# Altium footprint library GPS.PcbLib: 5 footprints
Each footprint in its own frame and in the unit in brackets; x right, y up, seen from the top. Pads: shape width x height; smd on the part's side, far side on the other; paste and mask are expansions set on the pad; w line width, h text height; cw(c..) or ccw(c..) is an arc to the next point about the centre after c.
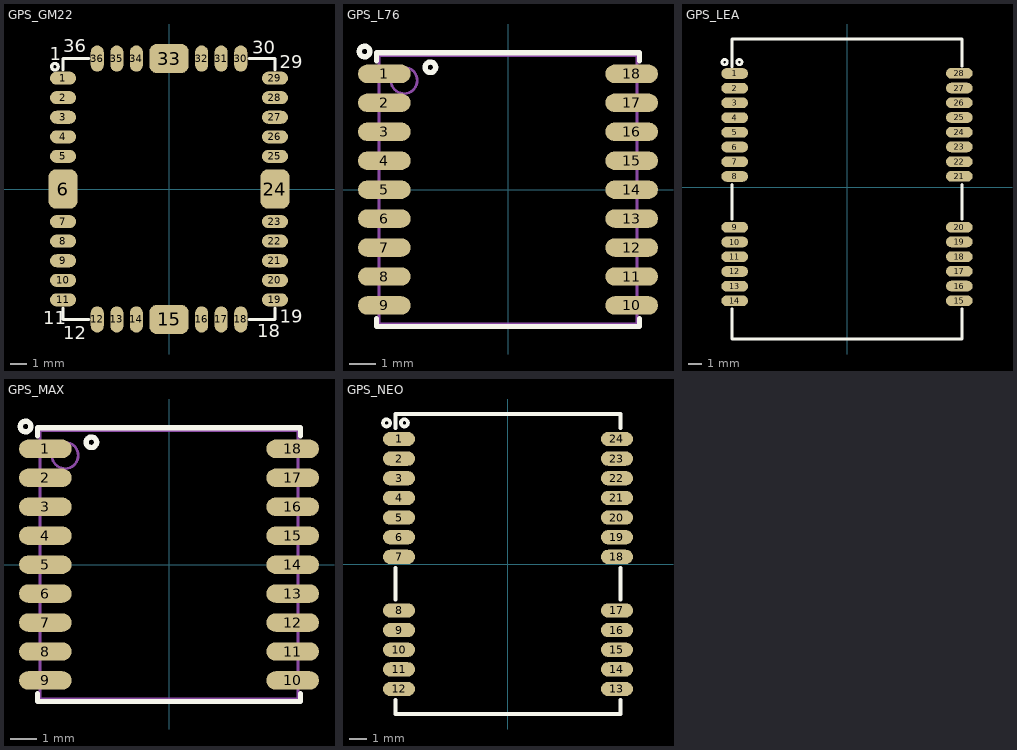
[diagram p0: the footprints below, top view; thin cyan lines are the x and y axes]

## GPS_GM22 [mm]
pads (36):
  oval 1.6x0.8 smd: 1(-6.5,6.8) 2(-6.5,5.6) 3(-6.5,4.4) 4(-6.5,3.2) 5(-6.5,2) 7(-6.5,-2) 8(-6.5,-3.2) 9(-6.5,-4.4) 10(-6.5,-5.6) 11(-6.5,-6.8) 19(6.5,-6.8) 20(6.5,-5.6) 21(6.5,-4.4) 22(6.5,-3.2) 23(6.5,-2) 25(6.5,2) 26(6.5,3.2) 27(6.5,4.4) 28(6.5,5.6) 29(6.5,6.8)
  rrect50% 1.8x2.4 smd: 6(-6.5,0) 24(6.5,0)
  oval 0.8x1.6 smd: 12(-4.4,-8) 13(-3.2,-8) 14(-2,-8) 16(2,-8) 17(3.2,-8) 18(4.4,-8) 30(4.4,8) 31(3.2,8) 32(2,8) 34(-2,8) 35(-3.2,8) 36(-4.4,8)
  rrect50% 2.4x1.8 smd: 15(0,-8) 33(0,8)
Top Overlay:
  circle w0.2: c-7,7.5 r0.2
  lines w0.2: -6.5,-7.3 -6.5,-8 -4.9,-8 ; -6.5,7.3 -6.5,8 -4.9,8 ; 4.9,-8 6.5,-8 6.5,-7.3 ; 4.9,8 6.5,8 6.5,7.3
  text "1" at -7.3,7.9 h0.8
  text "11" at -7.7,-8.3 h0.8
  text "18" at 5.4,-9.1 h0.8
  text "19" at 6.8,-8.2 h0.8
  text "29" at 6.8,7.4 h0.8
  text "30" at 5.1,8.3 h0.8
  text "36" at -6.5,8.4 h0.8
  text "12" at -6.5,-9.2 h0.8
3D body: height 3, standoff 0, extent -6.4,-7.9 6.4,7.9

## GPS_L76 [mm] "L76, 18-Leads, Body 9.70x10.10mm, Pitch 1.10mm"
height 1
pads (18):
  oval 2x0.7 smd: 1(-4.7,4.4) 2(-4.7,3.3) 3(-4.7,2.2) 4(-4.7,1.1) 5(-4.7,0) 6(-4.7,-1.1) 7(-4.7,-2.2) 8(-4.7,-3.3) 9(-4.7,-4.4) 10(4.7,-4.4) 11(4.7,-3.3) 12(4.7,-2.2) 13(4.7,-1.1) 14(4.7,0) 15(4.7,1.1) 16(4.7,2.2) 17(4.7,3.3) 18(4.7,4.4)
Top Overlay:
  circle w0.2: c-2.95,4.65 r0.2
  circle w0.2: c-5.45,5.25 r0.2
  lines w0.2: -5,-4.9 -5,-5.2 5,-5.2 5,-4.9 ; -5,4.9 -5,5.2 5,5.2 5,4.9
Mechanical 13:
  circle w0.1: c-3.95,4.15 r0.5
  lines w0.1: -4.9,-5.1 4.9,-5.1 4.9,5.1 -4.9,5.1 -4.9,-5.1
3D body "User Library-QUECTEL L76.STEP": height 2.52, standoff 0, extent -4.85,-5.05 4.85,5.05

## GPS_LEA [mm] "GPS LEA-6"
height 2.6
pads (28):
  oval 2x0.8 smd: 1(-8.4,8.5) 2(-8.4,7.4) 3(-8.4,6.3) 4(-8.4,5.2) 5(-8.4,4.1) 6(-8.4,3) 7(-8.4,1.9) 8(-8.4,0.8) 9(-8.4,-3.006) 10(-8.4,-4.106) 11(-8.4,-5.206) 12(-8.4,-6.308) 13(-8.4,-7.408) 14(-8.4,-8.508) 15(8.4,-8.5) 16(8.4,-7.4) 17(8.4,-6.3) 18(8.4,-5.198) 19(8.4,-4.098) 20(8.4,-2.998) 21(8.4,0.808) 22(8.4,1.908) 23(8.4,3.008) 24(8.4,4.108) 25(8.4,5.208) 26(8.4,6.308) 27(8.4,7.408) 28(8.4,8.508)
Top Overlay:
  circle w0.2: c-8.05,9.35 r0.2
  circle w0.2: c-9.15,9.35 r0.2
  lines w0.2: -8.6,-9.107 -8.6,-11.358 8.6,-11.358 8.6,-9.086 ; -8.6,-2.4 -8.6,0.2 ; -8.6,8.982 -8.6,11.078 8.6,11.078 8.6,9.037 ; 8.6,-2.4 8.6,0.2
3D body "LEA-M8F(AP214).STEP": height 3.55, standoff -0.05, extent -8.492,-11.338 8.508,11.062
3D body: height 2.2, standoff 0, extent -9.981,-3.251 5.388,9.011

## GPS_MAX [mm] "MAX-M8, 18-Leads, Body 9.70x10.10mm, Pitch 1.10mm"
height 1
pads (18):
  oval 2x0.7 smd: 1(-4.7,4.4) 2(-4.7,3.3) 3(-4.7,2.2) 4(-4.7,1.1) 5(-4.7,0) 6(-4.7,-1.1) 7(-4.7,-2.2) 8(-4.7,-3.3) 9(-4.7,-4.4) 10(4.7,-4.4) 11(4.7,-3.3) 12(4.7,-2.2) 13(4.7,-1.1) 14(4.7,0) 15(4.7,1.1) 16(4.7,2.2) 17(4.7,3.3) 18(4.7,4.4)
Top Overlay:
  circle w0.2: c-5.45,5.25 r0.2
  circle w0.2: c-2.95,4.65 r0.2
  lines w0.2: -5,-4.9 -5,-5.2 5,-5.2 5,-4.9 ; -5,4.9 -5,5.2 5,5.2 5,4.9
Mechanical 13:
  circle w0.1: c-3.95,4.15 r0.5
  lines w0.1: -4.9,-5.1 -4.9,5.1 4.9,5.1 4.9,-5.1 -4.9,-5.1
3D body "MAX (STEP-AP214).step": height 2.07, standoff -0.4, extent -4.852,-4.994 4.848,5.106

## GPS_NEO [mm] "GPS NEO-6, UBLOX_NEO6M GPS MODULE"
pads (24):
  oval 1.8x0.8 smd mask+0.075: 1(-6.1,7) 2(-6.1,5.9) 3(-6.1,4.8) 4(-6.1,3.7) 5(-6.1,2.6) 6(-6.1,1.5) 7(-6.1,0.4) 8(-6.1,-2.6) 9(-6.1,-3.7) 10(-6.1,-4.8) 11(-6.1,-5.9) 12(-6.1,-7) 13(6.1,-7) 14(6.1,-5.9) 15(6.1,-4.8) 16(6.1,-3.7) 17(6.1,-2.6) 18(6.1,0.4) 19(6.1,1.5) 20(6.1,2.6) 21(6.1,3.7) 22(6.1,4.8) 23(6.1,5.9) 24(6.1,7)
Top Overlay:
  circle w0.2: c-5.8,7.9 r0.2
  circle w0.2: c-6.8,7.9 r0.2
  lines w0.2: -6.3,-7.6 -6.3,-8.4 6.3,-8.4 6.3,-7.6 ; -6.3,-2 -6.3,-0.2 ; -6.3,7.6 -6.3,8.4 6.3,8.4 6.3,7.6 ; 6.3,-2 6.3,-0.2
3D body "User Library-UBLOX_GPS_NEO-6M.STEP": height 2.64, standoff 0, extent -6.18,-8.3 6.18,8.3